# EAGLE library part 54602-908LF (library con-RJ45)
RJ-45 CONN MOD JACK R/A 8P8C
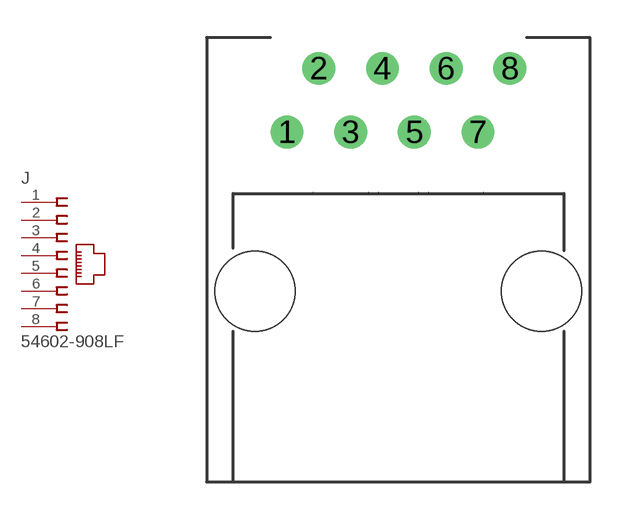
[diagram p4: symbol with the pads of 54602-908LF; footprint 54602-908LF]

Designator prefix J

## 54602-908LF (DIGIKEY: 609-1046-ND)  [54602-908LF]
1  1  pas
2  2  pas
3  3  pas
4  4  pas
5  5  pas
6  6  pas
7  7  pas
8  8  pas

## Footprint 54602-908LF (pad centres in mm)
drill 0.8: 1 -4.445,6.35; 2 -3.175,8.89; 3 -1.905,6.35; 4 -0.635,8.89; 5 0.635,6.35; 6 1.905,8.89; 7 3.175,6.35; 8 4.445,8.89
hole 3.2 at -5.715,0
hole 3.2 at 5.715,0